# EAGLE library part JSPHS-446 (library ic)
JSPHS-446: Phase shifter (Mini-Circuits) 366-446MHz, 20dBm
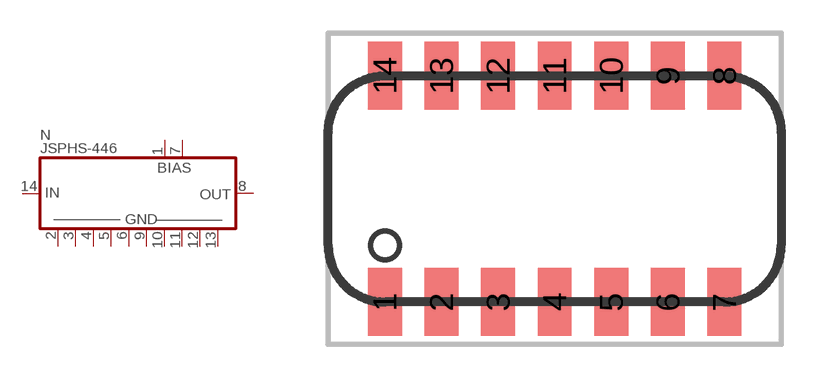
[diagram p81: symbol with the pads of MC-BK276; footprint MC-BK276]

Designator prefix N

## JSPHS-446  [MC-BK276]
1  BIAS  in
2  GND  pwr
3  GND  pwr
4  GND  pwr
5  GND  pwr
6  GND  pwr
7  BIAS  in
8  OUT
9  GND  pwr
10  GND  pwr
11  GND  pwr
12  GND  pwr
13  GND  pwr
14  IN

## Footprint MC-BK276 (pad centres in mm)
Mini-Circuits BK276 SMD Metal case (20*10mm), 14 pins
smd 1.524 x 3.048: 1 -7.62,-5.08; 2 -5.08,-5.08; 3 -2.54,-5.08; 4 0,-5.08; 5 2.54,-5.08; 6 5.08,-5.08; 7 7.62,-5.08; 8 7.62,5.08; 9 5.08,5.08; 10 2.54,5.08; 11 0,5.08; 12 -2.54,5.08; 13 -5.08,5.08; 14 -7.62,5.08